# Altium integrated library Linear Technology Comparators.IntLib: 630 symbols (part 1 of 24)
Pins are listed as number, name and electrical type; pins without a type are passive.

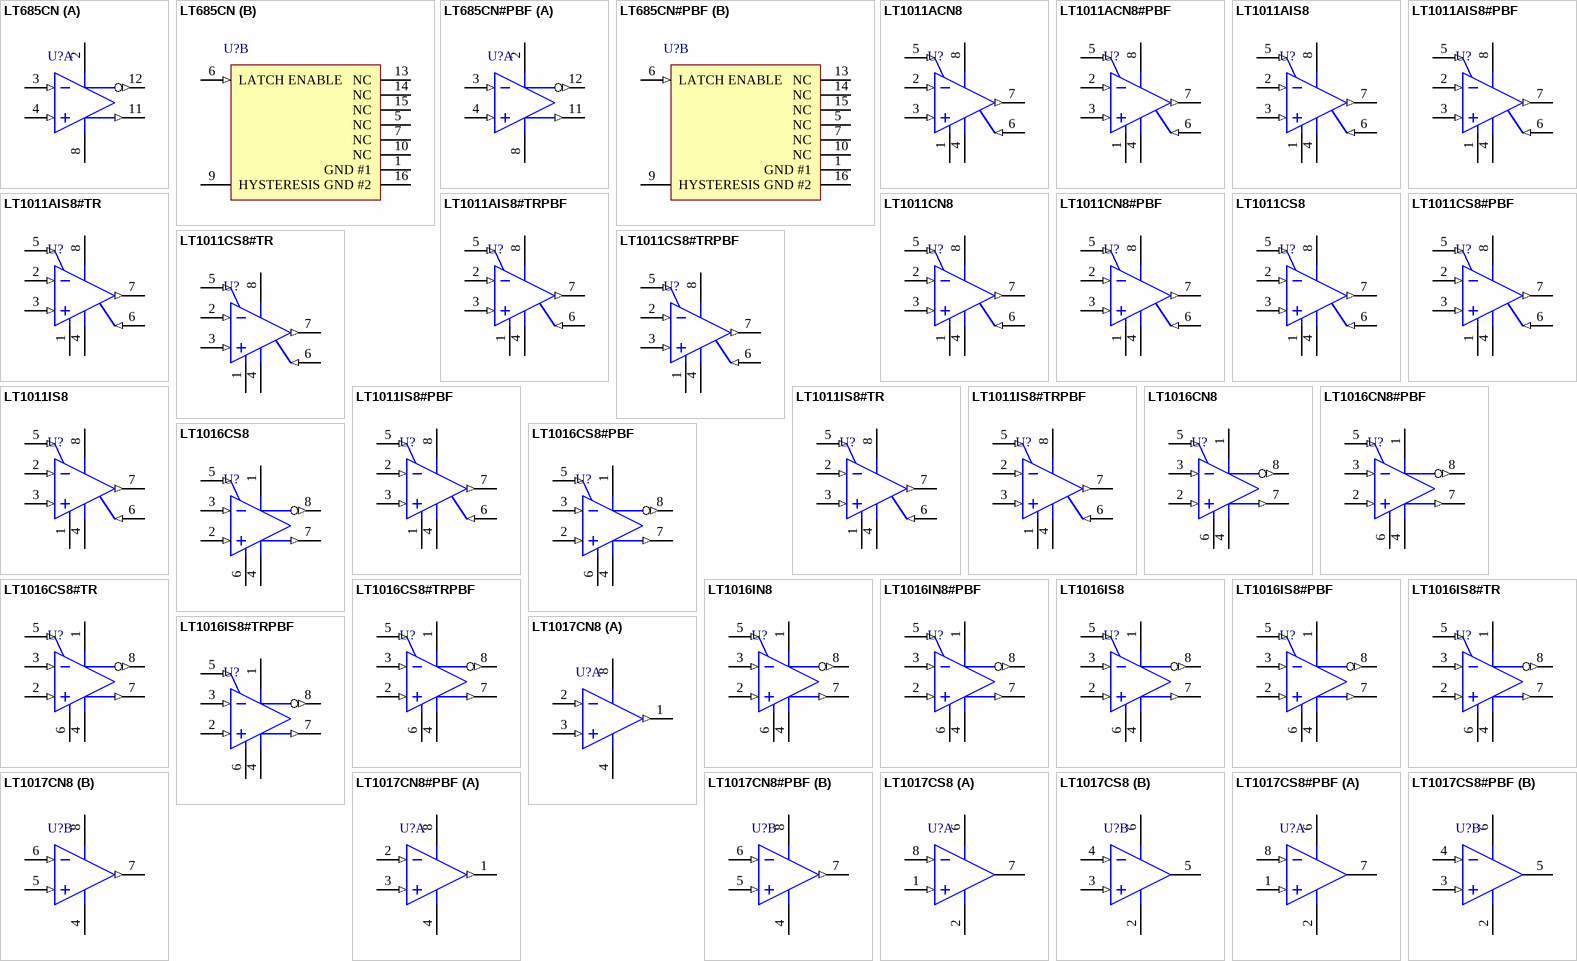
[diagram p0: symbols LT685CN to LT1017CS8#PBF]

## LT685CN
designator U?
High Speed Comparator, 1 Channel, 11.2 to 14 V, 0 to +70 degC, 16-pin PDIP (N16); Generic Part Number: LT685; Manufacturer: Linear Technology; PartNumber: LT685CN; Channels (#): 1; Prop Delay (us): 0.005; Supply Current (uA) Guaranteed: 26000; Vos (mV) Guaranteed: 2; Vs Max (V): 18; Vs Min (V): 1.4; DatasheetVersion: Rev A; PackageReference: N16; PackageDescription: 16-Pin PDIP, Body 19.305 x 6.35 mm, Pitch 2.54 mm; Supplier 1: Digi-Key; Supplier Part Number 1: LT685CN-ND; Features: Comparator, Output Latch; RoHS: N; Supply Current (uA) Typical: 26000; Supply Voltage Range: 11.2 to 14 V; Vos (mV) Typical: 2; Mounting Technology: Through Hole; ComponentLink1Description: Manufacturer URL; ComponentLink1URL: http://www.linear.com/; ComponentLink2Description: Datasheet; ComponentLink2URL: http://cds.linear.com/docs/en/datasheet/lt685fa.pdf; ComponentLink3Description: Package Specification; ComponentLink3URL: http://cds.linear.com/docs/en/packaging/05081510_I_N16.pdf
footprint LT-N16 (DIP, 16-Leads, Body 19.558x6.477mm, Pitch 2.54mm)
part A pins: 2 V+ (power), 3 NON-INVERTING INPUT (in), 4 INVERTING INPUT (in), 8 V- (power), 11 Q OUTPUT (out), 12 ~{Q} OUTPUT (out)
part B pins: 1 GND #1 (power), 5 NC, 6 LATCH ENABLE (in), 7 NC, 9 HYSTERESIS, 10 NC, 13 NC, 14 NC, 15 NC, 16 GND #2 (power)

## LT685CN#PBF
designator U?
High Speed Comparator, 1 Channel, 11.2 to 14 V, 0 to +70 degC, 16-pin PDIP (N16); Generic Part Number: LT685; Manufacturer: Linear Technology; PartNumber: LT685CN#PBF; Channels (#): 1; Prop Delay (us): 0.005; Supply Current (uA) Guaranteed: 26000; Vos (mV) Guaranteed: 2; Vs Max (V): 18; Vs Min (V): 1.4; DatasheetVersion: Rev A; PackageReference: N16; PackageDescription: 16-Pin PDIP, Body 19.305 x 6.35 mm, Pitch 2.54 mm; Supplier 1: Digi-Key; Supplier Part Number 1: LT685CN#PBF-ND; Supplier 2: Newark; Supplier Part Number 2: 57M9742; Features: Comparator, Output Latch; RoHS: Y; Supply Current (uA) Typical: 26000; Supply Voltage Range: 11.2 to 14 V; Vos (mV) Typical: 2; Mounting Technology: Through Hole; ComponentLink1Description: Manufacturer URL; ComponentLink1URL: http://www.linear.com/; ComponentLink2Description: Datasheet; ComponentLink2URL: http://cds.linear.com/docs/en/datasheet/lt685fa.pdf; ComponentLink3Description: Package Specification; ComponentLink3URL: http://cds.linear.com/docs/en/packaging/05081510_I_N16.pdf
footprint LT-N16 (DIP, 16-Leads, Body 19.558x6.477mm, Pitch 2.54mm)
part A pins: 2 V+ (power), 3 NON-INVERTING INPUT (in), 4 INVERTING INPUT (in), 8 V- (power), 11 Q OUTPUT (out), 12 ~{Q} OUTPUT (out)
part B pins: 1 GND #1 (power), 5 NC, 6 LATCH ENABLE (in), 7 NC, 9 HYSTERESIS, 10 NC, 13 NC, 14 NC, 15 NC, 16 GND #2 (power)

## LT1011ACN8
designator U?
Voltage Comparator, 1 Channel, 5 to + / - 15 V, 0 to +70 degC, 8-pin PDIP (N8); Generic Part Number: LT1011; Manufacturer: Linear Technology; PartNumber: LT1011ACN8; Channels (#): 1; Prop Delay (us): 0.15; Supply Current (uA) Typical: 4000; Vos (mV) Guaranteed: 0.5; Vos (mV) Typical: 0.3; Vs Max (V): 36; Vs Min (V): 3; DatasheetVersion: Rev C; PackageReference: N8; PackageDescription: 8-Pin PDIP, Row Spacing 7.62, Pitch 2.54 mm; Supplier 1: Digi-Key; Supplier Part Number 1: LT1011ACN8-ND; Features: Comparator; RoHS: N; Supply Voltage Range: 5 to + / -15 V; Mounting Technology: Through Hole; ComponentLink1Description: Manufacturer URL; ComponentLink1URL: http://www.linear.com/; ComponentLink2Description: Datasheet; ComponentLink2URL: http://cds.linear.com/docs/en/datasheet/1011afc.pdf; ComponentLink3Description: Package Specification; ComponentLink3URL: http://cds.linear.com/docs/en/packaging/05081510_I_N8.pdf
footprint LT-N8 (DIP, 8-Leads, Body 10.16x6.477mm, Pitch 2.54mm)
pins: 1 GND (power), 2 INPUT (in), 3 INPUT (in), 4 V- (power), 5 BALANCE (in), 6 BALANCE/STROBE (in), 7 OUTPUT (out), 8 V+ (power)

## LT1011ACN8#PBF
designator U?
Voltage Comparator, 1 Channel, 5 to + / - 15 V, 0 to +70 degC, 8-pin PDIP (N8); Generic Part Number: LT1011; Manufacturer: Linear Technology; PartNumber: LT1011ACN8#PBF; Channels (#): 1; Prop Delay (us): 0.15; Supply Current (uA) Guaranteed: 3200; Supply Current (uA) Typical: 4000; Supply Voltage Range: 5 to ±15V; Vos (mV) Guaranteed: 0.5; Vos (mV) Typical: 0.3; Vs Max (V): 36; Vs Min (V): 3; DatasheetVersion: Rev C; PackageReference: N8; PackageDescription: 8-Pin PDIP, Row Spacing 7.62, Pitch 2.54 mm; Supplier 1: Digi-Key; Supplier Part Number 1: LT1011ACN8#PBF-ND; Supplier 2: Farnell; Supplier Part Number 2: 2102617; Supplier 3: Newark; Supplier Part Number 3: 57M0779; Features: Comparator; RoHS: Y; Mounting Technology: Through Hole; ComponentLink1Description: Manufacturer URL; ComponentLink1URL: http://www.linear.com/; ComponentLink2Description: Datasheet; ComponentLink2URL: http://cds.linear.com/docs/en/datasheet/1011afc.pdf; ComponentLink3Description: Package Specification; ComponentLink3URL: http://cds.linear.com/docs/en/packaging/05081510_I_N8.pdf
footprint LT-N8 (DIP, 8-Leads, Body 10.16x6.477mm, Pitch 2.54mm)
pins: 1 GND (power), 2 INPUT (in), 3 INPUT (in), 4 V- (power), 5 BALANCE (in), 6 BALANCE/STROBE (in), 7 OUTPUT (out), 8 V+ (power)

## LT1011AIS8
designator U?
Voltage Comparator, 1 Channel, 5 to + / - 15 V, -40 to +85 degC, 8-pin SOP (S8); Generic Part Number: LT1011; Manufacturer: Linear Technology; PartNumber: LT1011AIS8; Channels (#): 1; Prop Delay (us): 0.15; Supply Current (uA) Guaranteed: 3200; Supply Current (uA) Typical: 4000; Supply Voltage Range: 5 to ±15 V; Vos (mV) Guaranteed: 0.5; Vos (mV) Typical: 0.3; Vs Max (V): 36; Vs Min (V): 3; DatasheetVersion: Rev C; PackageReference: S8; PackageDescription: 8-Pin Plastic Small Outline (Narrow .150 Inch), Body 4.9 x 3.9 mm, Pitch 1.27 mm; Supplier 1: Digi-Key; Supplier Part Number 1: LT1011AIS8-ND; Supplier 2: Newark; Supplier Part Number 2: 57M0780; Features: Comparator; RoHS: N; Mounting Technology: Surface Mount; ComponentLink1Description: Manufacturer URL; ComponentLink1URL: http://www.linear.com/; ComponentLink2Description: Datasheet; ComponentLink2URL: http://cds.linear.com/docs/en/datasheet/1011afc.pdf; ComponentLink3Description: Package Specification; ComponentLink3URL: http://cds.linear.com/docs/en/packaging/05081610_G_SO8.pdf
footprint LT-S8_N (SOP, 8-Leads, Body 4.9x3.9mm, Pitch 1.27mm, IPC Medium Density)
footprint LT-S8_L (SOP, 8-Leads, Body 4.9x3.9mm, Pitch 1.27mm, IPC High Density)
footprint LT-S8_M (SOP, 8-Leads, Body 4.9x3.9mm, Pitch 1.27mm, IPC Low Density)
pins: 1 GND (power), 2 INPUT (in), 3 INPUT (in), 4 V- (power), 5 BALANCE (in), 6 BALANCE/STROBE (in), 7 OUTPUT (out), 8 V+ (power)

## LT1011AIS8#PBF
designator U?
Voltage Comparator, 1 Channel, 5 to + / - 15 V, -40 to +85 degC, 8-pin SOP (S8); Generic Part Number: LT1011; Manufacturer: Linear Technology; PartNumber: LT1011AIS8#PBF; Channels (#): 1; Prop Delay (us): 0.15; Supply Current (uA) Guaranteed: 3200; Supply Current (uA) Typical: 4000; Supply Voltage Range: 5 to ±15 V; Vos (mV) Guaranteed: 0.5; Vos (mV) Typical: 0.3; Vs Max (V): 36; Vs Min (V): 3; DatasheetVersion: Rev C; PackageReference: S8; PackageDescription: 8-Pin Plastic Small Outline (Narrow .150 Inch), Body 4.9 x 3.9 mm, Pitch 1.27 mm; Supplier 1: Digi-Key; Supplier Part Number 1: LT1011AIS8#PBF-ND; Supplier 2: Farnell; Supplier Part Number 2: 2211390; Supplier 3: Newark; Supplier Part Number 3: 57M0781; Features: Comparator; RoHS: Y; Mounting Technology: Surface Mount; ComponentLink1Description: Manufacturer URL; ComponentLink1URL: http://www.linear.com/; ComponentLink2Description: Datasheet; ComponentLink2URL: http://cds.linear.com/docs/en/datasheet/1011afc.pdf; ComponentLink3Description: Package Specification; ComponentLink3URL: http://cds.linear.com/docs/en/packaging/05081610_G_SO8.pdf
footprint LT-S8_N (SOP, 8-Leads, Body 4.9x3.9mm, Pitch 1.27mm, IPC Medium Density)
footprint LT-S8_L (SOP, 8-Leads, Body 4.9x3.9mm, Pitch 1.27mm, IPC High Density)
footprint LT-S8_M (SOP, 8-Leads, Body 4.9x3.9mm, Pitch 1.27mm, IPC Low Density)
pins: 1 GND (power), 2 INPUT (in), 3 INPUT (in), 4 V- (power), 5 BALANCE (in), 6 BALANCE/STROBE (in), 7 OUTPUT (out), 8 V+ (power)

## LT1011AIS8#TR
designator U?
Voltage Comparator, 1 Channel, 5 to + / -15 V, -40 to +85 degC, 8-pin SOP (S8), Tape and Reel; Generic Part Number: LT1011; Manufacturer: Linear Technology; PartNumber: LT1011AIS8#TR; Channels (#): 1; Prop Delay (us): 0.15; Supply Current (uA) Guaranteed: 3200; Supply Current (uA) Typical: 4000; Supply Voltage Range: 5 to ±15 V; Vos (mV) Guaranteed: 0.5; Vos (mV) Typical: 0.3; Vs Max (V): 36; Vs Min (V): 3; DatasheetVersion: Rev C; PackageReference: S8; PackageDescription: 8-Pin Plastic Small Outline (Narrow .150 Inch), Body 4.9 x 3.9 mm, Pitch 1.27 mm; Supplier 1: Digi-Key; Supplier Part Number 1: LT1011AIS8#TR-ND; Supplier 2: Newark; Supplier Part Number 2: 57M0782; Features: Comparator; RoHS: N; Mounting Technology: Surface Mount; ComponentLink1Description: Manufacturer URL; ComponentLink1URL: http://www.linear.com/; ComponentLink2Description: Datasheet; ComponentLink2URL: http://cds.linear.com/docs/en/datasheet/1011afc.pdf; ComponentLink3Description: Package Specification; ComponentLink3URL: http://cds.linear.com/docs/en/packaging/05081610_G_SO8.pdf
footprint LT-S8_N (SOP, 8-Leads, Body 4.9x3.9mm, Pitch 1.27mm, IPC Medium Density)
footprint LT-S8_L (SOP, 8-Leads, Body 4.9x3.9mm, Pitch 1.27mm, IPC High Density)
footprint LT-S8_M (SOP, 8-Leads, Body 4.9x3.9mm, Pitch 1.27mm, IPC Low Density)
pins: 1 GND (power), 2 INPUT (in), 3 INPUT (in), 4 V- (power), 5 BALANCE (in), 6 BALANCE/STROBE (in), 7 OUTPUT (out), 8 V+ (power)

## LT1011AIS8#TRPBF
designator U?
Voltage Comparator, 1 Channel, 5 to + / - 15 V, -40 to +85 degC, 8-pin SOP (S8), Tape and Reel; Generic Part Number: LT1011; Manufacturer: Linear Technology; PartNumber: LT1011AIS8#TRPBF; Channels (#): 1; Prop Delay (us): 0.15; Supply Current (uA) Typical: 4000; Vos (mV) Guaranteed: 0.5; Vos (mV) Typical: 0.3; Vs Max (V): 36; Vs Min (V): 3; DatasheetVersion: Rev C; PackageReference: S8; PackageDescription: 8-Pin Plastic Small Outline (Narrow .150 Inch), Body 4.9 x 3.9 mm, Pitch 1.27 mm; Supplier 1: Digi-Key; Supplier Part Number 1: LT1011AIS8#TRPBF-ND; Supplier 2: Newark; Supplier Part Number 2: 57M0783; Features: Comparator; RoHS: Y; Supply Voltage Range: 5 to + / -15 V; Mounting Technology: Surface Mount; ComponentLink1Description: Manufacturer URL; ComponentLink1URL: http://www.linear.com/; ComponentLink2Description: Datasheet; ComponentLink2URL: http://cds.linear.com/docs/en/datasheet/1011afc.pdf; ComponentLink3Description: Package Specification; ComponentLink3URL: http://cds.linear.com/docs/en/packaging/05081610_G_SO8.pdf
footprint LT-S8_N (SOP, 8-Leads, Body 4.9x3.9mm, Pitch 1.27mm, IPC Medium Density)
footprint LT-S8_L (SOP, 8-Leads, Body 4.9x3.9mm, Pitch 1.27mm, IPC High Density)
footprint LT-S8_M (SOP, 8-Leads, Body 4.9x3.9mm, Pitch 1.27mm, IPC Low Density)
pins: 1 GND (power), 2 INPUT (in), 3 INPUT (in), 4 V- (power), 5 BALANCE (in), 6 BALANCE/STROBE (in), 7 OUTPUT (out), 8 V+ (power)

## LT1011CN8
designator U?
Voltage Comparator, 1 Channel, 5 to + / - 15 V, 0 to +70 degC, 8-pin PDIP (N8); Generic Part Number: LT1011; Manufacturer: Linear Technology; PartNumber: LT1011CN8; Channels (#): 1; Prop Delay (us): 0.15; Supply Current (uA) Typical: 4000; Supply Voltage Range: 5V to ±15V; Vos (mV) Guaranteed: 0.5; Vos (mV) Typical: 0.3; Vs Max (V): 36; Vs Min (V): 3; DatasheetVersion: Rev C; PackageReference: N8; PackageDescription: 8-Pin PDIP, Row Spacing 7.62, Pitch 2.54 mm; Supplier 1: Digi-Key; Supplier Part Number 1: LT1011CN8-ND; Supplier 2: Newark; Supplier Part Number 2: 57M0784; Features: Comparator; RoHS: N; Mounting Technology: Through Hole; ComponentLink1Description: Manufacturer URL; ComponentLink1URL: http://www.linear.com/; ComponentLink2Description: Datasheet; ComponentLink2URL: http://cds.linear.com/docs/en/datasheet/1011afc.pdf; ComponentLink3Description: Package Specification; ComponentLink3URL: http://cds.linear.com/docs/en/packaging/05081510_I_N8.pdf
footprint LT-N8 (DIP, 8-Leads, Body 10.16x6.477mm, Pitch 2.54mm)
pins: 1 GND (power), 2 INPUT (in), 3 INPUT (in), 4 V- (power), 5 BALANCE (in), 6 BALANCE/STROBE (in), 7 OUTPUT (out), 8 V+ (power)

## LT1011CN8#PBF
designator U?
Voltage Comparator, 1 Channel, 5 to + / - 15 V, 0 to +70 degC, 8-pin PDIP (N8); Generic Part Number: LT1011; Manufacturer: Linear Technology; PartNumber: LT1011CN8#PBF; Channels (#): 1; Prop Delay (us): 0.15; Supply Current (uA) Guaranteed: 3200; Supply Current (uA) Typical: 4000; Vos (mV) Guaranteed: 1.5; Vos (mV) Typical: 0.6; Vs Max (V): 36; Vs Min (V): 3; DatasheetVersion: Rev C; PackageReference: N8; PackageDescription: 8-Pin PDIP, Row Spacing 7.62, Pitch 2.54 mm; Supplier 1: Digi-Key; Supplier Part Number 1: LT1011CN8#PBF-ND; Supplier 2: Farnell; Supplier Part Number 2: 2211391; Supplier 3: Newark; Supplier Part Number 3: 57M0785; Features: Comparator; RoHS: Y; Supply Voltage Range: 5 to + / - 15 V; Mounting Technology: Through Hole; ComponentLink1Description: Manufacturer URL; ComponentLink1URL: http://www.linear.com/; ComponentLink2Description: Datasheet; ComponentLink2URL: http://cds.linear.com/docs/en/datasheet/1011afc.pdf; ComponentLink3Description: Package Specification; ComponentLink3URL: http://cds.linear.com/docs/en/packaging/05081510_I_N8.pdf
footprint LT-N8 (DIP, 8-Leads, Body 10.16x6.477mm, Pitch 2.54mm)
pins: 1 GND (power), 2 INPUT (in), 3 INPUT (in), 4 V- (power), 5 BALANCE (in), 6 BALANCE/STROBE (in), 7 OUTPUT (out), 8 V+ (power)

## LT1011CS8
designator U?
Voltage Comparator, 1 Channel, 5 to + / - 15 V, 0 to +70 degC, 8-pin SOP (S8), Reel; Generic Part Number: LT1011; Manufacturer: Linear Technology; PartNumber: LT1011CS8; Channels (#): 1; Prop Delay (us): 0.15; Supply Current (uA) Typical: 4000; Supply Voltage Range: 5 to ±15 V; Vos (mV) Guaranteed: 1.5; Vos (mV) Typical: 0.6; Vs Max (V): 36; Vs Min (V): 3; DatasheetVersion: Rev C; PackageReference: S8; PackageDescription: 8-Pin Plastic Small Outline (Narrow .150 Inch), Body 4.9 x 3.9 mm, Pitch 1.27 mm; Supplier 1: Digi-Key; Supplier Part Number 1: LT1011CS8-ND; Supplier 2: Newark; Supplier Part Number 2: 57M0786; Features: Comparator; RoHS: N; Mounting Technology: Surface Mount; ComponentLink1Description: Manufacturer URL; ComponentLink1URL: http://www.linear.com/; ComponentLink2Description: Datasheet; ComponentLink2URL: http://cds.linear.com/docs/en/datasheet/1011afc.pdf; ComponentLink3Description: Package Specification; ComponentLink3URL: http://cds.linear.com/docs/en/packaging/05081610_G_SO8.pdf
footprint LT-S8_N (SOP, 8-Leads, Body 4.9x3.9mm, Pitch 1.27mm, IPC Medium Density)
footprint LT-S8_L (SOP, 8-Leads, Body 4.9x3.9mm, Pitch 1.27mm, IPC High Density)
footprint LT-S8_M (SOP, 8-Leads, Body 4.9x3.9mm, Pitch 1.27mm, IPC Low Density)
pins: 1 GND (power), 2 INPUT (in), 3 INPUT (in), 4 V- (power), 5 BALANCE (in), 6 BALANCE/STROBE (in), 7 OUTPUT (out), 8 V+ (power)

## LT1011CS8#PBF
designator U?
Voltage Comparator, 1 Channel, 5 to + / - 15 V, 0 to +70 degC, 8-pin SOP (S8); Generic Part Number: LT1011; Manufacturer: Linear Technology; PartNumber: LT1011CS8#PBF; Channels (#): 1; Prop Delay (us): 0.15; Supply Current (uA) Typical: 4000; Vos (mV) Guaranteed: 1.5; Vos (mV) Typical: 0.6; Vs Max (V): 36; Vs Min (V): 3; DatasheetVersion: Rev C; PackageReference: S8; PackageDescription: 8-Pin Plastic Small Outline (Narrow .150 Inch), Body 4.9 x 3.9 mm, Pitch 1.27 mm; Supplier 1: Digi-Key; Supplier Part Number 1: LT1011CS8#PBF-ND; Supplier 2: Farnell; Supplier Part Number 2: 1663328; Supplier 3: Newark; Supplier Part Number 3: 57M0787; Features: Comparator; RoHS: Y; Supply Voltage Range: 5 to + / -15 V; Mounting Technology: Surface Mount; ComponentLink1Description: Manufacturer URL; ComponentLink1URL: http://www.linear.com/; ComponentLink2Description: Datasheet; ComponentLink2URL: http://cds.linear.com/docs/en/datasheet/1011afc.pdf; ComponentLink3Description: Package Specification; ComponentLink3URL: http://cds.linear.com/docs/en/packaging/05081610_G_SO8.pdf
footprint LT-S8_N (SOP, 8-Leads, Body 4.9x3.9mm, Pitch 1.27mm, IPC Medium Density)
footprint LT-S8_L (SOP, 8-Leads, Body 4.9x3.9mm, Pitch 1.27mm, IPC High Density)
footprint LT-S8_M (SOP, 8-Leads, Body 4.9x3.9mm, Pitch 1.27mm, IPC Low Density)
pins: 1 GND (power), 2 INPUT (in), 3 INPUT (in), 4 V- (power), 5 BALANCE (in), 6 BALANCE/STROBE (in), 7 OUTPUT (out), 8 V+ (power)

## LT1011CS8#TR
designator U?
Voltage Comparator, 1 Channel, 5 to + / - 15 V, 0 to +70 degC, 8-pin SOP (S8), Tape and Reel; Generic Part Number: LT1011; Manufacturer: Linear Technology; PartNumber: LT1011CS8#TR; Channels (#): 1; Prop Delay (us): 0.15; Supply Current (uA) Typical: 4000; Vos (mV) Guaranteed: 1.5; Vos (mV) Typical: 0.6; Vs Max (V): 36; Vs Min (V): 3; DatasheetVersion: Rev C; PackageReference: S8; PackageDescription: 8-Pin Plastic Small Outline (Narrow .150 Inch), Body 4.9 x 3.9 mm, Pitch 1.27 mm; Supplier 1: Digi-Key; Supplier Part Number 1: LT1011CS8#TR-ND; Features: Comparator; RoHS: N; Supply Voltage Range: 5 to + / -15 V; Mounting Technology: Surface Mount; ComponentLink1Description: Manufacturer URL; ComponentLink1URL: http://www.linear.com/; ComponentLink2Description: Datasheet; ComponentLink2URL: http://cds.linear.com/docs/en/datasheet/1011afc.pdf; ComponentLink3Description: Package Specification; ComponentLink3URL: http://cds.linear.com/docs/en/packaging/05081610_G_SO8.pdf
footprint LT-S8_N (SOP, 8-Leads, Body 4.9x3.9mm, Pitch 1.27mm, IPC Medium Density)
footprint LT-S8_L (SOP, 8-Leads, Body 4.9x3.9mm, Pitch 1.27mm, IPC High Density)
footprint LT-S8_M (SOP, 8-Leads, Body 4.9x3.9mm, Pitch 1.27mm, IPC Low Density)
pins: 1 GND (power), 2 INPUT (in), 3 INPUT (in), 4 V- (power), 5 BALANCE (in), 6 BALANCE/STROBE (in), 7 OUTPUT (out), 8 V+ (power)

## LT1011CS8#TRPBF
designator U?
Voltage Comparator, 1 Channel, 5 to + / -15 V, 0 to +70 degC, 8-pin SOP (S8), Tape and Reel; Generic Part Number: LT1011; Manufacturer: Linear Technology; PartNumber: LT1011CS8#TRPBF; Channels (#): 1; Prop Delay (us): 0.15; Supply Current (uA) Typical: 4000; Vos (mV) Guaranteed: 1.5; Vos (mV) Typical: 0.6; Vs Max (V): 36; Vs Min (V): 3; DatasheetVersion: Rev C; PackageReference: S8; PackageDescription: 8-Pin Plastic Small Outline (Narrow .150 Inch), Body 4.9 x 3.9 mm, Pitch 1.27 mm; Supplier 1: Digi-Key; Supplier Part Number 1: LT1011CS8#TRPBF-ND; Supplier 2: Newark; Supplier Part Number 2: 57M0789; Features: Comparator; RoHS: Y; Supply Voltage Range: 5 to + / -15 V; Mounting Technology: Surface Mount; ComponentLink1Description: Manufacturer URL; ComponentLink1URL: http://www.linear.com/; ComponentLink2Description: Datasheet; ComponentLink2URL: http://cds.linear.com/docs/en/datasheet/1011afc.pdf; ComponentLink3Description: Package Specification; ComponentLink3URL: http://cds.linear.com/docs/en/packaging/05081610_G_SO8.pdf
footprint LT-S8_N (SOP, 8-Leads, Body 4.9x3.9mm, Pitch 1.27mm, IPC Medium Density)
footprint LT-S8_L (SOP, 8-Leads, Body 4.9x3.9mm, Pitch 1.27mm, IPC High Density)
footprint LT-S8_M (SOP, 8-Leads, Body 4.9x3.9mm, Pitch 1.27mm, IPC Low Density)
pins: 1 GND (power), 2 INPUT (in), 3 INPUT (in), 4 V- (power), 5 BALANCE (in), 6 BALANCE/STROBE (in), 7 OUTPUT (out), 8 V+ (power)

## LT1011IS8
designator U?
Voltage Comparator, 1 Channel, 5 to + / -15 V, -40 to +85 degC, 8-pin SOP (S8); Generic Part Number: LT1011; Manufacturer: Linear Technology; PartNumber: LT1011IS8; Channels (#): 1; Prop Delay (us): 0.15; Supply Current (uA) Typical: 4000; Vos (mV) Guaranteed: 1.5; Vos (mV) Typical: 0.6; Vs Max (V): 36; Vs Min (V): 3; DatasheetVersion: Rev C; PackageReference: S8; PackageDescription: 8-Pin Plastic Small Outline (Narrow .150 Inch), Body 4.9 x 3.9 mm, Pitch 1.27 mm; Supplier 1: Digi-Key; Supplier Part Number 1: LT1011IS8-ND; Supplier 2: Newark; Supplier Part Number 2: 57M0790; Features: Comparator; RoHS: N; Supply Voltage Range: 5 to + / -15 V; Mounting Technology: Surface Mount; ComponentLink1Description: Manufacturer URL; ComponentLink1URL: http://www.linear.com/; ComponentLink2Description: Datasheet; ComponentLink2URL: http://cds.linear.com/docs/en/datasheet/1011afc.pdf; ComponentLink3Description: Package Specification; ComponentLink3URL: http://cds.linear.com/docs/en/packaging/05081610_G_SO8.pdf
footprint LT-S8_N (SOP, 8-Leads, Body 4.9x3.9mm, Pitch 1.27mm, IPC Medium Density)
footprint LT-S8_L (SOP, 8-Leads, Body 4.9x3.9mm, Pitch 1.27mm, IPC High Density)
footprint LT-S8_M (SOP, 8-Leads, Body 4.9x3.9mm, Pitch 1.27mm, IPC Low Density)
pins: 1 GND (power), 2 INPUT (in), 3 INPUT (in), 4 V- (power), 5 BALANCE (in), 6 BALANCE/STROBE (in), 7 OUTPUT (out), 8 V+ (power)

## LT1011IS8#PBF
designator U?
Voltage Comparator, 1 Channel, 5 to + / -15 V, -40 to +85 degC, 8-pin SOP (S8); Generic Part Number: LT1011; Manufacturer: Linear Technology; PartNumber: LT1011IS8#PBF; Channels (#): 1; Prop Delay (us): 0.15; Supply Current (uA) Typical: 4000; Vos (mV) Guaranteed: 1.5; Vos (mV) Typical: 0.6; Vs Max (V): 36; Vs Min (V): 3; DatasheetVersion: Rev C; PackageReference: S8; PackageDescription: 8-Pin Plastic Small Outline (Narrow .150 Inch), Body 4.9 x 3.9 mm, Pitch 1.27 mm; Supplier 1: Digi-Key; Supplier Part Number 1: LT1011IS8#PBF-ND; Supplier 2: Farnell; Supplier Part Number 2: 2211392; Supplier 3: Newark; Supplier Part Number 3: 57M0791; Features: Comparator; RoHS: Y; Supply Voltage Range: 5 to + / -15 V; Mounting Technology: Surface Mount; ComponentLink1Description: Manufacturer URL; ComponentLink1URL: http://www.linear.com/; ComponentLink2Description: Datasheet; ComponentLink2URL: http://cds.linear.com/docs/en/datasheet/1011afc.pdf; ComponentLink3Description: Package Specification; ComponentLink3URL: http://cds.linear.com/docs/en/packaging/05081610_G_SO8.pdf
footprint LT-S8_N (SOP, 8-Leads, Body 4.9x3.9mm, Pitch 1.27mm, IPC Medium Density)
footprint LT-S8_L (SOP, 8-Leads, Body 4.9x3.9mm, Pitch 1.27mm, IPC High Density)
footprint LT-S8_M (SOP, 8-Leads, Body 4.9x3.9mm, Pitch 1.27mm, IPC Low Density)
pins: 1 GND (power), 2 INPUT (in), 3 INPUT (in), 4 V- (power), 5 BALANCE (in), 6 BALANCE/STROBE (in), 7 OUTPUT (out), 8 V+ (power)

## LT1011IS8#TR
designator U?
Voltage Comparator, 1 Channel, 5 to + / -15 V, -40 to +85 degC, 8-pin SOP (S8), Tape and Reel; Generic Part Number: LT1011; Manufacturer: Linear Technology; PartNumber: LT1011IS8#TR; Channels (#): 1; Prop Delay (us): 0.15; Supply Current (uA) Guaranteed: 3200; Supply Current (uA) Typical: 4000; Supply Voltage Range: 5 to ±15 V; Vos (mV) Guaranteed: 0.5; Vos (mV) Typical: 0.3; Vs Max (V): 36; Vs Min (V): 3; DatasheetVersion: Rev C; PackageReference: S8; PackageDescription: 8-Pin Plastic Small Outline (Narrow .150 Inch), Body 4.9 x 3.9 mm, Pitch 1.27 mm; Supplier 1: Digi-Key; Supplier Part Number 1: LT1011IS8#TR-ND; Features: Comparator; RoHS: N; Mounting Technology: Surface Mount; ComponentLink1Description: Manufacturer URL; ComponentLink1URL: http://www.linear.com/; ComponentLink2Description: Datasheet; ComponentLink2URL: http://cds.linear.com/docs/en/datasheet/1011afc.pdf; ComponentLink3Description: Package Specification; ComponentLink3URL: http://cds.linear.com/docs/en/packaging/05081610_G_SO8.pdf
footprint LT-S8_N (SOP, 8-Leads, Body 4.9x3.9mm, Pitch 1.27mm, IPC Medium Density)
footprint LT-S8_L (SOP, 8-Leads, Body 4.9x3.9mm, Pitch 1.27mm, IPC High Density)
footprint LT-S8_M (SOP, 8-Leads, Body 4.9x3.9mm, Pitch 1.27mm, IPC Low Density)
pins: 1 GND (power), 2 INPUT (in), 3 INPUT (in), 4 V- (power), 5 BALANCE (in), 6 BALANCE/STROBE (in), 7 OUTPUT (out), 8 V+ (power)

## LT1011IS8#TRPBF
designator U?
Voltage Comparator, 1 Channel, 5 to + / - 15 V, -40 to +85 degC, 8-pin SOP (S8); Generic Part Number: LT1011; Manufacturer: Linear Technology; PartNumber: LT1011IS8#TRPBF; Channels (#): 1; Prop Delay (us): 0.15; Supply Current (uA) Guaranteed: 3200; Supply Current (uA) Typical: 4000; Vos (mV) Guaranteed: 0.5; Vos (mV) Typical: 0.3; Vs Max (V): 36; Vs Min (V): 3; DatasheetVersion: Rev C; PackageReference: S8; PackageDescription: 8-Pin Plastic Small Outline (Narrow .150 Inch), Body 4.9 x 3.9 mm, Pitch 1.27 mm; Supplier 1: Digi-Key; Supplier Part Number 1: LT1011IS8#TRPBF-ND; Features: Comparator; RoHS: Y; Supply Voltage Range: 5 to + / - 15 V; Mounting Technology: Surface Mount; ComponentLink1Description: Manufacturer URL; ComponentLink1URL: http://www.linear.com/; ComponentLink2Description: Datasheet; ComponentLink2URL: http://cds.linear.com/docs/en/datasheet/1011afc.pdf; ComponentLink3Description: Package Specification; ComponentLink3URL: http://cds.linear.com/docs/en/packaging/05081610_G_SO8.pdf
footprint LT-S8_N (SOP, 8-Leads, Body 4.9x3.9mm, Pitch 1.27mm, IPC Medium Density)
footprint LT-S8_L (SOP, 8-Leads, Body 4.9x3.9mm, Pitch 1.27mm, IPC High Density)
footprint LT-S8_M (SOP, 8-Leads, Body 4.9x3.9mm, Pitch 1.27mm, IPC Low Density)
pins: 1 GND (power), 2 INPUT (in), 3 INPUT (in), 4 V- (power), 5 BALANCE (in), 6 BALANCE/STROBE (in), 7 OUTPUT (out), 8 V+ (power)

## LT1016CN8
designator U?
UltraFast Precision 10 ns Comparator, 1 Channel, 4.5 to + / - 5 V, 0 to +70 degC, 8-pin PDIP (N8); Generic Part Number: LT1016; Manufacturer: Linear Technology; PartNumber: LT1016CN8; Channels (#): 1; Prop Delay (us): 0.009; Supply Current (uA) Typical: 35000; Vos (mV) Guaranteed: 3; Vs Max (V): 10; Vs Min (V): 4.5; DatasheetVersion: Rev C; PackageReference: N8; PackageDescription: 8-Pin PDIP, Row Spacing 7.62, Pitch 2.54 mm; Supplier 1: Digi-Key; Supplier Part Number 1: LT1016CN8-ND; Supplier 2: Newark; Supplier Part Number 2: 57M0852; Features: Comparator, Output Latch; RoHS: N; Supply Voltage Range: 4.5 to + / -5 V; Vos (mV) Typical: 1; Mounting Technology: Through Hole; ComponentLink1Description: Manufacturer URL; ComponentLink1URL: http://www.linear.com/; ComponentLink2Description: Datasheet; ComponentLink2URL: http://cds.linear.com/docs/en/datasheet/1016fc.pdf; ComponentLink3Description: Package Specification; ComponentLink3URL: http://cds.linear.com/docs/en/packaging/05081510_I_N8.pdf
footprint LT-N8 (DIP, 8-Leads, Body 10.16x6.477mm, Pitch 2.54mm)
pins: 1 V+ (power), 2 +IN (in), 3 -IN (in), 4 V- (power), 5 LATCHENABLE (in), 6 GND (power), 7 QOUT (out), 8 ~{Q}OUT (out)

## LT1016CN8#PBF
designator U?
UltraFast Precision 10 ns Comparator, 1 Channel, 4.5 to + / - 5 V, 0 to +70 degC, 8-pin PDIP (N8); Generic Part Number: LT1016; Manufacturer: Linear Technology; PartNumber: LT1016CN8#PBF; Channels (#): 1; Prop Delay (us): 0.009; Supply Current (uA) Typical: 35000; Vos (mV) Guaranteed: 3; Vs Max (V): 10; Vs Min (V): 4.5; DatasheetVersion: Rev C; PackageReference: N8; PackageDescription: 8-Pin PDIP, Row Spacing 7.62, Pitch 2.54 mm; Supplier 1: Digi-Key; Supplier Part Number 1: LT1016CN8#PBF-ND; Supplier 2: Farnell; Supplier Part Number 2: 9559353; Supplier 3: Newark; Supplier Part Number 3: 57M0853; Features: Comparator, Output Latch; RoHS: Y; Supply Voltage Range: 4.5 to + / -5 V; Vos (mV) Typical: 1; Mounting Technology: Through Hole; ComponentLink1Description: Manufacturer URL; ComponentLink1URL: http://www.linear.com/; ComponentLink2Description: Datasheet; ComponentLink2URL: http://cds.linear.com/docs/en/datasheet/1016fc.pdf; ComponentLink3Description: Package Specification; ComponentLink3URL: http://cds.linear.com/docs/en/packaging/05081510_I_N8.pdf
footprint LT-N8 (DIP, 8-Leads, Body 10.16x6.477mm, Pitch 2.54mm)
pins: 1 V+ (power), 2 +IN (in), 3 -IN (in), 4 V- (power), 5 LATCHENABLE (in), 6 GND (power), 7 QOUT (out), 8 ~{Q}OUT (out)

## LT1016CS8
designator U?
UltraFast Precision 10 ns Comparator, 1 Channel, 4.5 to + / - 5 V, 0 to +70 degC, 8-pin SOP (S8); Generic Part Number: LT1016; Manufacturer: Linear Technology; PartNumber: LT1016CS8; Channels (#): 1; Prop Delay (us): 0.009; Supply Current (uA) Typical: 35000; Vos (mV) Guaranteed: 3; Vs Max (V): 10; Vs Min (V): 4.5; DatasheetVersion: Rev C; PackageReference: S8; PackageDescription: 8-Pin Plastic Small Outline (Narrow .150 Inch), Body 4.9 x 3.9 mm, Pitch 1.27 mm; Supplier 1: Digi-Key; Supplier Part Number 1: LT1016CS8-ND; Supplier 2: Newark; Supplier Part Number 2: 57M0854; Features: Comparator, Output Latch; RoHS: N; Supply Voltage Range: 4.5 to + / -5 V; Vos (mV) Typical: 1; Mounting Technology: Surface Mount; ComponentLink1Description: Manufacturer URL; ComponentLink1URL: http://www.linear.com/; ComponentLink2Description: Datasheet; ComponentLink2URL: http://cds.linear.com/docs/en/datasheet/1016fc.pdf; ComponentLink3Description: Package Specification; ComponentLink3URL: http://cds.linear.com/docs/en/packaging/05081610_G_SO8.pdf
footprint LT-S8_N (SOP, 8-Leads, Body 4.9x3.9mm, Pitch 1.27mm, IPC Medium Density)
footprint LT-S8_L (SOP, 8-Leads, Body 4.9x3.9mm, Pitch 1.27mm, IPC High Density)
footprint LT-S8_M (SOP, 8-Leads, Body 4.9x3.9mm, Pitch 1.27mm, IPC Low Density)
pins: 1 V+ (power), 2 +IN (in), 3 -IN (in), 4 V- (power), 5 LATCHENABLE (in), 6 GND (power), 7 QOUT (out), 8 ~{Q}OUT (out)

## LT1016CS8#PBF
designator U?
UltraFast Precision 10 ns Comparator, 1 Channel, 4.5 to + / - 5 V, 0 to +70 degC, 8-pin SOP (S8); Generic Part Number: LT1016; Manufacturer: Linear Technology; PartNumber: LT1016CS8#PBF; Channels (#): 1; Prop Delay (us): 0.009; Supply Current (uA) Typical: 35000; Vos (mV) Guaranteed: 3; Vs Max (V): 10; Vs Min (V): 4.5; DatasheetVersion: Rev C; PackageReference: S8; PackageDescription: 8-Pin Plastic Small Outline (Narrow .150 Inch), Body 4.9 x 3.9 mm, Pitch 1.27 mm; Supplier 1: Digi-Key; Supplier Part Number 1: LT1016CS8#PBF-ND; Supplier 2: Farnell; Supplier Part Number 2: 9559361; Supplier 3: Newark; Supplier Part Number 3: 57M0855; Features: Comparator, Output Latch; RoHS: Y; Supply Voltage Range: 4.5 to + / -5 V; Vos (mV) Typical: 1; Mounting Technology: Surface Mount; ComponentLink1Description: Manufacturer URL; ComponentLink1URL: http://www.linear.com/; ComponentLink2Description: Datasheet; ComponentLink2URL: http://cds.linear.com/docs/en/datasheet/1016fc.pdf; ComponentLink3Description: Package Specification; ComponentLink3URL: http://cds.linear.com/docs/en/packaging/05081610_G_SO8.pdf
footprint LT-S8_N (SOP, 8-Leads, Body 4.9x3.9mm, Pitch 1.27mm, IPC Medium Density)
footprint LT-S8_L (SOP, 8-Leads, Body 4.9x3.9mm, Pitch 1.27mm, IPC High Density)
footprint LT-S8_M (SOP, 8-Leads, Body 4.9x3.9mm, Pitch 1.27mm, IPC Low Density)
pins: 1 V+ (power), 2 +IN (in), 3 -IN (in), 4 V- (power), 5 LATCHENABLE (in), 6 GND (power), 7 QOUT (out), 8 ~{Q}OUT (out)

## LT1016CS8#TR
designator U?
UltraFast Precision 10 ns Comparator, 1 Channel, 4.5 to + / - 5 V, 0 to +70 degC, 8-pin SOP (S8), Tape and Reel; Generic Part Number: LT1016; Manufacturer: Linear Technology; PartNumber: LT1016CS8#TR; Channels (#): 1; Prop Delay (us): 0.009; Supply Current (uA) Typical: 35000; Vos (mV) Guaranteed: 3; Vs Max (V): 10; Vs Min (V): 4.5; DatasheetVersion: Rev C; PackageReference: S8; PackageDescription: 8-Pin Plastic Small Outline (Narrow .150 Inch), Body 4.9 x 3.9 mm, Pitch 1.27 mm; Supplier 1: Digi-Key; Supplier Part Number 1: LT1016CS8TR-ND; Supplier 2: Newark; Supplier Part Number 2: 57M0856; Features: Comparator, Output Latch; RoHS: N; Supply Voltage Range: 4.5 to + / -5 V; Vos (mV) Typical: 1; Mounting Technology: Surface Mount; ComponentLink1Description: Manufacturer URL; ComponentLink1URL: http://www.linear.com/; ComponentLink2Description: Datasheet; ComponentLink2URL: http://cds.linear.com/docs/en/datasheet/1016fc.pdf; ComponentLink3Description: Package Specification; ComponentLink3URL: http://cds.linear.com/docs/en/packaging/05081610_G_SO8.pdf
footprint LT-S8_N (SOP, 8-Leads, Body 4.9x3.9mm, Pitch 1.27mm, IPC Medium Density)
footprint LT-S8_L (SOP, 8-Leads, Body 4.9x3.9mm, Pitch 1.27mm, IPC High Density)
footprint LT-S8_M (SOP, 8-Leads, Body 4.9x3.9mm, Pitch 1.27mm, IPC Low Density)
pins: 1 V+ (power), 2 +IN (in), 3 -IN (in), 4 V- (power), 5 LATCHENABLE (in), 6 GND (power), 7 QOUT (out), 8 ~{Q}OUT (out)

## LT1016CS8#TRPBF
designator U?
UltraFast Precision 10 ns Comparator, 1 Channel, 4.5 to + / - 5 V, 0 to +70 degC, 8-pin SOP (S8), Tape and Reel; Generic Part Number: LT1016; Manufacturer: Linear Technology; PartNumber: LT1016CS8#TRPBF; Channels (#): 1; Prop Delay (us): 0.009; Supply Current (uA) Typical: 35000; Vos (mV) Guaranteed: 3; Vs Max (V): 10; Vs Min (V): 4.5; DatasheetVersion: Rev C; PackageReference: S8; PackageDescription: 8-Pin Plastic Small Outline (Narrow .150 Inch), Body 4.9 x 3.9 mm, Pitch 1.27 mm; Supplier 1: Digi-Key; Supplier Part Number 1: LT1016CS8#TRPBF-ND; Supplier 2: Newark; Supplier Part Number 2: 57M0857; Features: Comparator, Output Latch; RoHS: Y; Supply Voltage Range: 4.5 to + / -5V; Vos (mV) Typical: 1; Mounting Technology: Surface Mount; ComponentLink1Description: Manufacturer URL; ComponentLink1URL: http://www.linear.com/; ComponentLink2Description: Datasheet; ComponentLink2URL: http://cds.linear.com/docs/en/datasheet/1016fc.pdf; ComponentLink3Description: Package Specification; ComponentLink3URL: http://cds.linear.com/docs/en/packaging/05081610_G_SO8.pdf
footprint LT-S8_N (SOP, 8-Leads, Body 4.9x3.9mm, Pitch 1.27mm, IPC Medium Density)
footprint LT-S8_L (SOP, 8-Leads, Body 4.9x3.9mm, Pitch 1.27mm, IPC High Density)
footprint LT-S8_M (SOP, 8-Leads, Body 4.9x3.9mm, Pitch 1.27mm, IPC Low Density)
pins: 1 V+ (power), 2 +IN (in), 3 -IN (in), 4 V- (power), 5 LATCHENABLE (in), 6 GND (power), 7 QOUT (out), 8 ~{Q}OUT (out)

## LT1016IN8
designator U?
UltraFast Precision 10 ns Comparator, 1 Channel, 4.5 to + / - 5 V, -40 to +85 degC, 8-pin PDIP (N8); Generic Part Number: LT1016; Manufacturer: Linear Technology; PartNumber: LT1016IN8; Channels (#): 1; Prop Delay (us): 0.009; Supply Current (uA) Typical: 35000; Vos (mV) Guaranteed: 3; Vs Max (V): 10; Vs Min (V): 4.5; DatasheetVersion: Rev C; PackageReference: N8; PackageDescription: 8-Pin PDIP, Row Spacing 7.62, Pitch 2.54 mm; Supplier 1: Digi-Key; Supplier Part Number 1: LT1016IN8-ND; Supplier 2: Newark; Supplier Part Number 2: 57M0858; Features: Comparator, Output Latch; RoHS: N; Supply Voltage Range: 4.5 to + / -5 V; Vos (mV) Typical: 1; Mounting Technology: Through Hole; ComponentLink1Description: Manufacturer URL; ComponentLink1URL: http://www.linear.com/; ComponentLink2Description: Datasheet; ComponentLink2URL: http://cds.linear.com/docs/en/datasheet/1016fc.pdf; ComponentLink3Description: Package Specification; ComponentLink3URL: http://cds.linear.com/docs/en/packaging/05081510_I_N8.pdf
footprint LT-N8 (DIP, 8-Leads, Body 10.16x6.477mm, Pitch 2.54mm)
pins: 1 V+ (power), 2 +IN (in), 3 -IN (in), 4 V- (power), 5 LATCHENABLE (in), 6 GND (power), 7 QOUT (out), 8 ~{Q}OUT (out)

## LT1016IN8#PBF
designator U?
UltraFast Precision 10 ns Comparator, 1 Channel, 4.5 to + / -5 V, -40 to +85 degC, 8-pin PDIP (N8); Generic Part Number: LT1016; Manufacturer: Linear Technology; PartNumber: LT1016IN8#PBF; Channels (#): 1; Prop Delay (us): 0.009; Supply Current (uA) Typical: 35000; Vos (mV) Guaranteed: 3; Vs Max (V): 10; Vs Min (V): 4.5; DatasheetVersion: Rev C; PackageReference: N8; PackageDescription: 8-Pin PDIP, Row Spacing 7.62, Pitch 2.54 mm; Supplier 1: Digi-Key; Supplier Part Number 1: LT1016IN8#PBF-ND; Supplier 2: Newark; Supplier Part Number 2: 57M0859; Features: Comparator, Output Latch; RoHS: Y; Supply Voltage Range: 4.5 to + / -5 V; Vos (mV) Typical: 1; Mounting Technology: Through Hole; ComponentLink1Description: Manufacturer URL; ComponentLink1URL: http://www.linear.com/; ComponentLink2Description: Datasheet; ComponentLink2URL: http://cds.linear.com/docs/en/datasheet/1016fc.pdf; ComponentLink3Description: Package Specification; ComponentLink3URL: http://cds.linear.com/docs/en/packaging/05081510_I_N8.pdf
footprint LT-N8 (DIP, 8-Leads, Body 10.16x6.477mm, Pitch 2.54mm)
pins: 1 V+ (power), 2 +IN (in), 3 -IN (in), 4 V- (power), 5 LATCHENABLE (in), 6 GND (power), 7 QOUT (out), 8 ~{Q}OUT (out)

## LT1016IS8
designator U?
UltraFast Precision 10 ns Comparator, 1 Channel, 4.5 to + / -5 V, -40 to +85 degC, 8-pin SOP (S8); Generic Part Number: LT1016; Manufacturer: Linear Technology; PartNumber: LT1016IS8; Channels (#): 1; Prop Delay (us): 0.009; Supply Current (uA) Typical: 35000; Vos (mV) Guaranteed: 3; Vs Max (V): 10; Vs Min (V): 4.5; DatasheetVersion: Rev C; PackageReference: S8; PackageDescription: 8-Pin Plastic Small Outline (Narrow .150 Inch), Body 4.9 x 3.9 mm, Pitch 1.27 mm; Supplier 1: Digi-Key; Supplier Part Number 1: LT1016IS8-ND; Features: Comparator, Output Latch; RoHS: N; Supply Voltage Range: 4.5 to + / -5 V; Vos (mV) Typical: 1; Mounting Technology: Surface Mount; ComponentLink1Description: Manufacturer URL; ComponentLink1URL: http://www.linear.com/; ComponentLink2Description: Datasheet; ComponentLink2URL: http://cds.linear.com/docs/en/datasheet/1016fc.pdf; ComponentLink3Description: Package Specification; ComponentLink3URL: http://cds.linear.com/docs/en/packaging/05081610_G_SO8.pdf
footprint LT-S8_N (SOP, 8-Leads, Body 4.9x3.9mm, Pitch 1.27mm, IPC Medium Density)
footprint LT-S8_L (SOP, 8-Leads, Body 4.9x3.9mm, Pitch 1.27mm, IPC High Density)
footprint LT-S8_M (SOP, 8-Leads, Body 4.9x3.9mm, Pitch 1.27mm, IPC Low Density)
pins: 1 V+ (power), 2 +IN (in), 3 -IN (in), 4 V- (power), 5 LATCHENABLE (in), 6 GND (power), 7 QOUT (out), 8 ~{Q}OUT (out)

## LT1016IS8#PBF
designator U?
UltraFast Precision 10 ns Comparator, 1 Channel, 4.5 to + / -5 V, -40 to +85 degC, 8-pin SOP (S8); Generic Part Number: LT1016; Manufacturer: Linear Technology; PartNumber: LT1016IS8#PBF; Channels (#): 1; Prop Delay (us): 0.009; Supply Current (uA) Typical: 35000; Vos (mV) Guaranteed: 3; Vs Max (V): 10; Vs Min (V): 4.5; DatasheetVersion: Rev C; PackageReference: S8; PackageDescription: 8-Pin Plastic Small Outline (Narrow .150 Inch), Body 4.9 x 3.9 mm, Pitch 1.27 mm; Supplier 1: Digi-Key; Supplier Part Number 1: LT1016IS8#PBF-ND; Supplier 2: Farnell; Supplier Part Number 2: 2102620; Supplier 3: Newark; Supplier Part Number 3: 57M0861; Features: Comparator, Output Latch; RoHS: Y; Supply Voltage Range: 4.5 to + / -5 V; Vos (mV) Typical: 1; Mounting Technology: Surface Mount; ComponentLink1Description: Manufacturer URL; ComponentLink1URL: http://www.linear.com/; ComponentLink2Description: Datasheet; ComponentLink2URL: http://cds.linear.com/docs/en/datasheet/1016fc.pdf; ComponentLink3Description: Package Specification; ComponentLink3URL: http://cds.linear.com/docs/en/packaging/05081610_G_SO8.pdf
footprint LT-S8_N (SOP, 8-Leads, Body 4.9x3.9mm, Pitch 1.27mm, IPC Medium Density)
footprint LT-S8_L (SOP, 8-Leads, Body 4.9x3.9mm, Pitch 1.27mm, IPC High Density)
footprint LT-S8_M (SOP, 8-Leads, Body 4.9x3.9mm, Pitch 1.27mm, IPC Low Density)
pins: 1 V+ (power), 2 +IN (in), 3 -IN (in), 4 V- (power), 5 LATCHENABLE (in), 6 GND (power), 7 QOUT (out), 8 ~{Q}OUT (out)

## LT1016IS8#TR
designator U?
UltraFast Precision 10 ns Comparator, 1 Channel, 4.5 to + / - 5 V, -40 to +85 degC, 8-pin SOP (S8), Tape and Reel; Generic Part Number: LT1016; Manufacturer: Linear Technology; PartNumber: LT1016IS8#TR; Channels (#): 1; Prop Delay (us): 0.009; Supply Current (uA) Typical: 35000; Vos (mV) Guaranteed: 3; Vs Max (V): 10; Vs Min (V): 4.5; DatasheetVersion: Rev C; PackageReference: S8; PackageDescription: 8-Pin Plastic Small Outline (Narrow .150 Inch), Body 4.9 x 3.9 mm, Pitch 1.27 mm; Supplier 1: Digi-Key; Supplier Part Number 1: LT1016IS8#TR-ND; Supplier 2: Newark; Supplier Part Number 2: 57M0862; Features: Comparator, Output Latch; RoHS: N; Supply Voltage Range: 4.5 to + / -5 V; Vos (mV) Typical: 1; Mounting Technology: Surface Mount; ComponentLink1Description: Manufacturer URL; ComponentLink1URL: http://www.linear.com/; ComponentLink2Description: Datasheet; ComponentLink2URL: http://cds.linear.com/docs/en/datasheet/1016fc.pdf; ComponentLink3Description: Package Specification; ComponentLink3URL: http://cds.linear.com/docs/en/packaging/05081610_G_SO8.pdf
footprint LT-S8_N (SOP, 8-Leads, Body 4.9x3.9mm, Pitch 1.27mm, IPC Medium Density)
footprint LT-S8_L (SOP, 8-Leads, Body 4.9x3.9mm, Pitch 1.27mm, IPC High Density)
footprint LT-S8_M (SOP, 8-Leads, Body 4.9x3.9mm, Pitch 1.27mm, IPC Low Density)
pins: 1 V+ (power), 2 +IN (in), 3 -IN (in), 4 V- (power), 5 LATCHENABLE (in), 6 GND (power), 7 QOUT (out), 8 ~{Q}OUT (out)

## LT1016IS8#TRPBF
designator U?
UltraFast Precision 10 ns Comparator, 1 Channel, 4.5 to + / - 5 V, -40 to +85 degC, 8-pin SOP (S8), Tape and Reel; Generic Part Number: LT1016; Manufacturer: Linear Technology; PartNumber: LT1016IS8#TRPBF; Channels (#): 1; Prop Delay (us): 0.009; Supply Current (uA) Typical: 35000; Vos (mV) Guaranteed: 3; Vs Max (V): 10; Vs Min (V): 4.5; DatasheetVersion: Rev C; PackageReference: S8; PackageDescription: 8-Pin Plastic Small Outline (Narrow .150 Inch), Body 4.9 x 3.9 mm, Pitch 1.27 mm; Supplier 1: Digi-Key; Supplier Part Number 1: LT1016IS8#TRPBF-ND; Supplier 2: Newark; Supplier Part Number 2: 57M0863; Features: Comparator, Output Latch; RoHS: Y; Supply Voltage Range: 4.5 to + / -5 V; Vos (mV) Typical: 1; Mounting Technology: Surface Mount; ComponentLink1Description: Manufacturer URL; ComponentLink1URL: http://www.linear.com/; ComponentLink2Description: Datasheet; ComponentLink2URL: http://cds.linear.com/docs/en/datasheet/1016fc.pdf; ComponentLink3Description: Package Specification; ComponentLink3URL: http://cds.linear.com/docs/en/packaging/05081610_G_SO8.pdf
footprint LT-S8_N (SOP, 8-Leads, Body 4.9x3.9mm, Pitch 1.27mm, IPC Medium Density)
footprint LT-S8_L (SOP, 8-Leads, Body 4.9x3.9mm, Pitch 1.27mm, IPC High Density)
footprint LT-S8_M (SOP, 8-Leads, Body 4.9x3.9mm, Pitch 1.27mm, IPC Low Density)
pins: 1 V+ (power), 2 +IN (in), 3 -IN (in), 4 V- (power), 5 LATCHENABLE (in), 6 GND (power), 7 QOUT (out), 8 ~{Q}OUT (out)

## LT1017CN8
designator U?
Micropower Comparator, 2 Channels, 1.2 to 40 V, 0 to +70 degC, 8-pin PDIP (N8); Generic Part Number: LT1017; Manufacturer: Linear Technology; PartNumber: LT1017CN8; Channels (#): 2; Prop Delay (us): 22; Supply Current (uA) Guaranteed: 60; Supply Current (uA) Typical: 30; Vos (mV) Guaranteed: 1; Vos (mV) Typical: 0.4; Vs Max (V): 40; Vs Min (V): 1.2; DatasheetVersion: Rev F; PackageReference: N8; PackageDescription: 8-Pin PDIP, Row Spacing 7.62, Pitch 2.54 mm; Supplier 1: Digi-Key; Supplier Part Number 1: LT1017CN8-ND; Supplier 2: Newark; Supplier Part Number 2: 57M0864; Features: Comparator; RoHS: N; Supply Voltage Range: 1.2 to 40 V; Mounting Technology: Through Hole; ComponentLink1Description: Manufacturer URL; ComponentLink1URL: http://www.linear.com/; ComponentLink2Description: Datasheet; ComponentLink2URL: http://cds.linear.com/docs/en/datasheet/10178ff.pdf; ComponentLink3Description: Package Specification; ComponentLink3URL: http://cds.linear.com/docs/en/packaging/05081510_I_N8.pdf
footprint LT-N8 (DIP, 8-Leads, Body 10.16x6.477mm, Pitch 2.54mm)
pins on every part: 4 V- (power), 8 V+ (power)
part A pins: 1 OUTPUTA (out), 2 -INA (in), 3 +INA (in)
part B pins: 5 +INB (in), 6 -INB (in), 7 OUTPUTB (out)

## LT1017CN8#PBF
designator U?
Micropower Comparator, 2 Channels, 1.2 to 40 V, 0 to +70 degC, 8-pin PDIP (N8); Generic Part Number: LT1017; Manufacturer: Linear Technology; PartNumber: LT1017CN8#PBF; Channels (#): 2; Prop Delay (us): 22; Supply Current (uA) Guaranteed: 60; Supply Current (uA) Typical: 30; Vos (mV) Guaranteed: 1; Vos (mV) Typical: 0.4; Vs Max (V): 40; Vs Min (V): 1.2; DatasheetVersion: Rev F; PackageReference: N8; PackageDescription: 8-Pin PDIP, Row Spacing 7.62, Pitch 2.54 mm; Supplier 1: Digi-Key; Supplier Part Number 1: LT1017CN8#PBF-ND; Supplier 2: Farnell; Supplier Part Number 2: 2211393; Supplier 3: Newark; Supplier Part Number 3: 57M0865; Features: Comparator; RoHS: Y; Supply Voltage Range: 1.2 to 40 V; Mounting Technology: Through Hole; ComponentLink1Description: Manufacturer URL; ComponentLink1URL: http://www.linear.com/; ComponentLink2Description: Datasheet; ComponentLink2URL: http://cds.linear.com/docs/en/datasheet/10178ff.pdf; ComponentLink3Description: Package Specification; ComponentLink3URL: http://cds.linear.com/docs/en/packaging/05081510_I_N8.pdf
footprint LT-N8 (DIP, 8-Leads, Body 10.16x6.477mm, Pitch 2.54mm)
pins on every part: 4 V- (power), 8 V+ (power)
part A pins: 1 OUTPUTA (out), 2 -INA (in), 3 +INA (in)
part B pins: 5 +INB (in), 6 -INB (in), 7 OUTPUTB (out)

## LT1017CS8
designator U?
Micropower Comparator, 2 Channels, 1.2 to 40 V, 0 to +70 degC, 8-pin SOP (S8); Generic Part Number: LT1017; Manufacturer: Linear Technology; PartNumber: LT1017CS8; Channels (#): 2; Prop Delay (us): 22; Supply Current (uA) Guaranteed: 60; Supply Current (uA) Typical: 30; Vos (mV) Guaranteed: 1; Vos (mV) Typical: 0.4; Vs Max (V): 40; Vs Min (V): 1.2; DatasheetVersion: Rev F; PackageReference: S8; PackageDescription: 8-Pin Plastic Small Outline (Narrow .150 Inch), Body 4.9 x 3.9 mm, Pitch 1.27 mm; Supplier 1: Digi-Key; Supplier Part Number 1: LT1017CS8-ND; Supplier 2: Newark; Supplier Part Number 2: 57M0870; Features: Comparator; RoHS: N; Supply Voltage Range: 1.2 to 40 V; Mounting Technology: Surface Mount; ComponentLink1Description: Manufacturer URL; ComponentLink1URL: http://www.linear.com/; ComponentLink2Description: Datasheet; ComponentLink2URL: http://cds.linear.com/docs/en/datasheet/10178ff.pdf; ComponentLink3Description: Package Specification; ComponentLink3URL: http://cds.linear.com/docs/en/packaging/05081610_G_SO8.pdf
footprint LT-S8_N (SOP, 8-Leads, Body 4.9x3.9mm, Pitch 1.27mm, IPC Medium Density)
footprint LT-S8_L (SOP, 8-Leads, Body 4.9x3.9mm, Pitch 1.27mm, IPC High Density)
footprint LT-S8_M (SOP, 8-Leads, Body 4.9x3.9mm, Pitch 1.27mm, IPC Low Density)
pins on every part: 2 V- (power), 6 V+ (power)
part A pins: 1 +IN A (in), 7 OUT A (oc), 8 -IN A (in)
part B pins: 3 +IN B (in), 4 -IN B (in), 5 OUT B (oc)

## LT1017CS8#PBF
designator U?
Micropower Comparator, 2 Channels, 1.2 to 40 V, 0 to +70 degC, 8-pin SOP (S8); Generic Part Number: LT1017; Manufacturer: Linear Technology; PartNumber: LT1017CS8#PBF; Channels (#): 2; Prop Delay (us): 22; Supply Current (uA) Guaranteed: 60; Supply Current (uA) Typical: 30; Vos (mV) Guaranteed: 1; Vos (mV) Typical: 0.4; Vs Max (V): 40; Vs Min (V): 1.2; DatasheetVersion: Rev F; PackageReference: S8; PackageDescription: 8-Pin Plastic Small Outline (Narrow .150 Inch), Body 4.9 x 3.9 mm, Pitch 1.27 mm; Supplier 1: Digi-Key; Supplier Part Number 1: LT1017CS8#PBF-ND; Supplier 2: Farnell; Supplier Part Number 2: 1663329; Supplier 3: Newark; Supplier Part Number 3: 57M0871; Features: Comparator; RoHS: Y; Supply Voltage Range: 1.2 to 40 V; Mounting Technology: Surface Mount; ComponentLink1Description: Manufacturer URL; ComponentLink1URL: http://www.linear.com/; ComponentLink2Description: Datasheet; ComponentLink2URL: http://cds.linear.com/docs/en/datasheet/10178ff.pdf; ComponentLink3Description: Package Specification; ComponentLink3URL: http://cds.linear.com/docs/en/packaging/05081610_G_SO8.pdf
footprint LT-S8_N (SOP, 8-Leads, Body 4.9x3.9mm, Pitch 1.27mm, IPC Medium Density)
footprint LT-S8_L (SOP, 8-Leads, Body 4.9x3.9mm, Pitch 1.27mm, IPC High Density)
footprint LT-S8_M (SOP, 8-Leads, Body 4.9x3.9mm, Pitch 1.27mm, IPC Low Density)
pins on every part: 2 V- (power), 6 V+ (power)
part A pins: 1 +IN A (in), 7 OUT A (oc), 8 -IN A (in)
part B pins: 3 +IN B (in), 4 -IN B (in), 5 OUT B (oc)

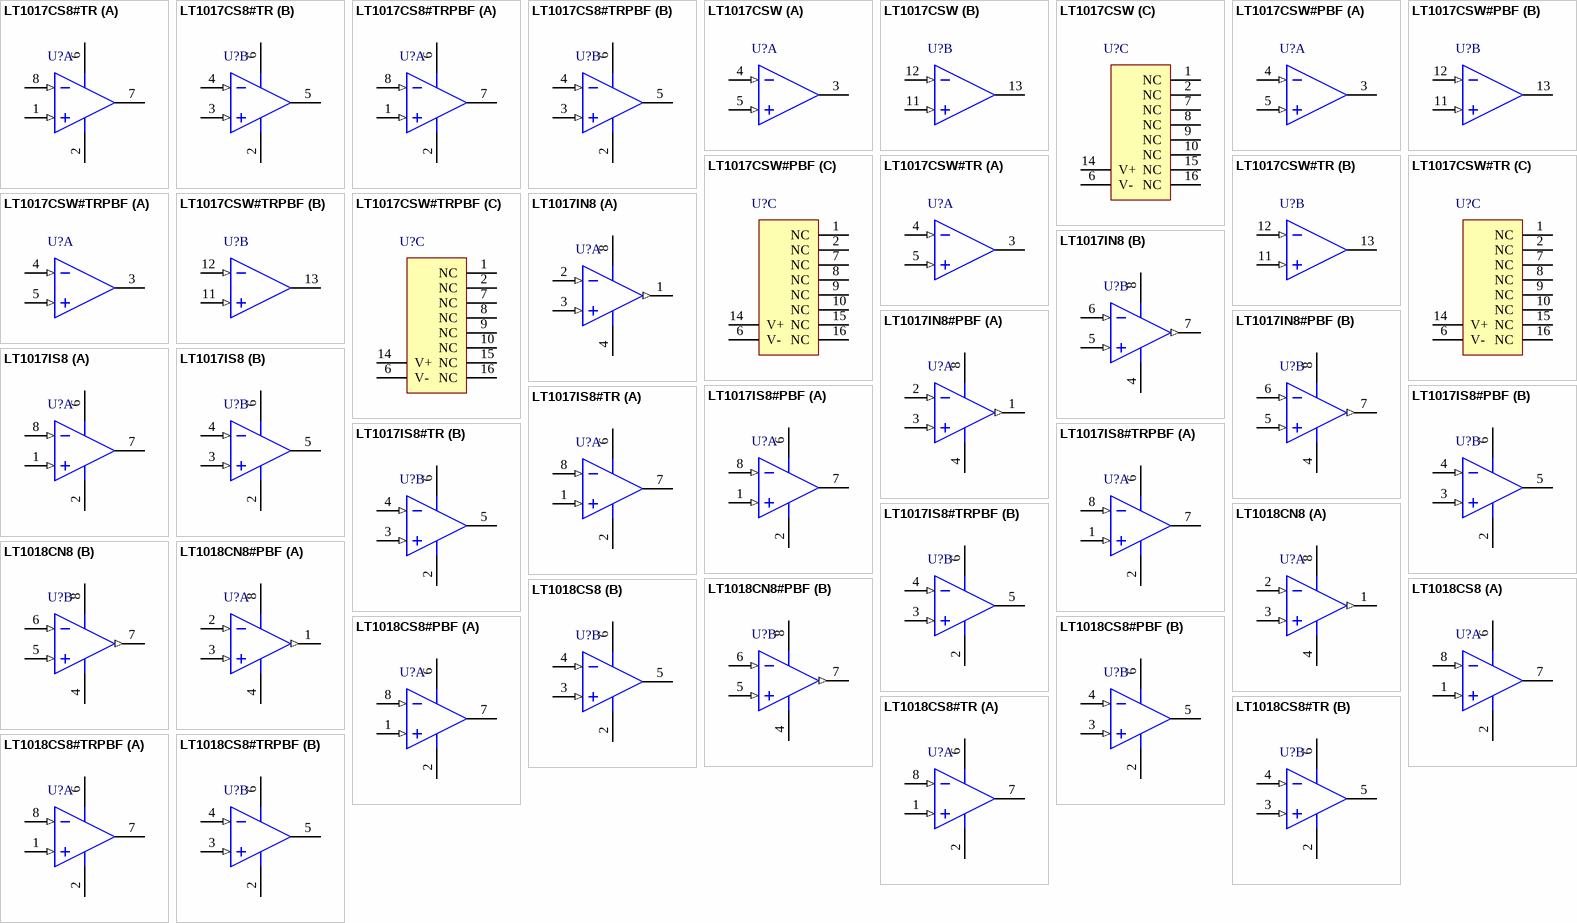
[diagram p1: symbols LT1017CS8#TR to LT1018CS8#TRPBF]

## LT1017CS8#TR
designator U?
Micropower Comparator, 2 Channels, 1.2 to 40 V, 0 to +70 degC, 8-pin SOP (S8), Tape and Reel; Generic Part Number: LT1017; Manufacturer: Linear Technology; PartNumber: LT1017CS8#TR; Channels (#): 2; Prop Delay (us): 22; Supply Current (uA) Guaranteed: 60; Supply Current (uA) Typical: 30; Vos (mV) Guaranteed: 1; Vos (mV) Typical: 0.4; Vs Max (V): 40; Vs Min (V): 1.2; DatasheetVersion: Rev F; PackageReference: S8; PackageDescription: 8-Pin Plastic Small Outline (Narrow .150 Inch), Body 4.9 x 3.9 mm, Pitch 1.27 mm; Supplier 1: Digi-Key; Supplier Part Number 1: LT1017CS8#TR-ND; Features: Comparator; RoHS: N; Supply Voltage Range: 1.2 to 40 V; Mounting Technology: Surface Mount; ComponentLink1Description: Manufacturer URL; ComponentLink1URL: http://www.linear.com/; ComponentLink2Description: Datasheet; ComponentLink2URL: http://cds.linear.com/docs/en/datasheet/10178ff.pdf; ComponentLink3Description: Package Specification; ComponentLink3URL: http://cds.linear.com/docs/en/packaging/05081610_G_SO8.pdf
footprint LT-S8_N (SOP, 8-Leads, Body 4.9x3.9mm, Pitch 1.27mm, IPC Medium Density)
footprint LT-S8_L (SOP, 8-Leads, Body 4.9x3.9mm, Pitch 1.27mm, IPC High Density)
footprint LT-S8_M (SOP, 8-Leads, Body 4.9x3.9mm, Pitch 1.27mm, IPC Low Density)
pins on every part: 2 V- (power), 6 V+ (power)
part A pins: 1 +IN A (in), 7 OUT A (oc), 8 -IN A (in)
part B pins: 3 +IN B (in), 4 -IN B (in), 5 OUT B (oc)